# EAGLE library part ADNS3080 (library 3DRobotics_Master_Library)
Agilent ADNS3080 High-pefformance Optical Mouse Sensor The ADNS-3080 is a high performance addition to Agilent?s popular ADNS family of optical mouse sensors. The ADNS-3080 is based on a new, faster architecture with improved navigation. The sensor is capable of sensing high speed mouse motion - up to 40 inches per second and acceleration up to 15g ? for increased user precision and smoothness. The ADNS-3080 along with the ADNS-2120 (or ADNS-2120-001) lens, ADNS-2220 (or ADNS- 2220-001) assembly clip and HLMP-ED80-XX000 form a complete, compact optical mouse tracking system. There are no moving parts, which means high reliability and less maintenance for the end user. In addition, precision optical alignment is not required, facilitating high volume assembly. The sensor is programmed via registers through a four-wire serial port. It is packaged in a 20-pin staggered dual inline package (DIP).
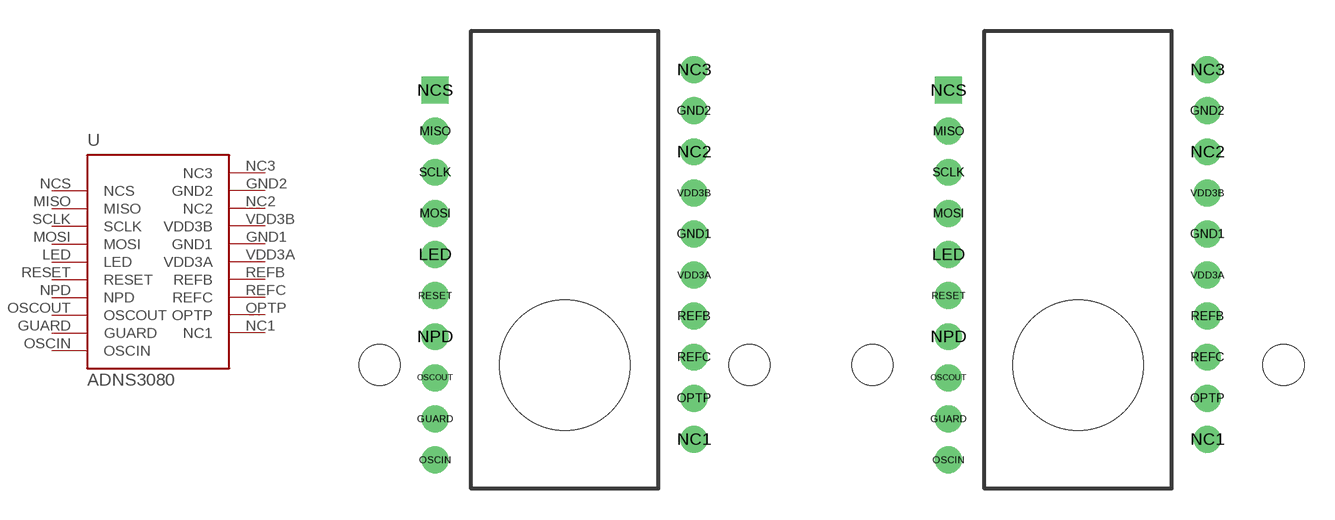
[diagram p21: symbol with the pads of DIL20_18MM; footprints DIL20_18MM, DIL20_20MM]

Designator prefix -

## ADNS308018MM (DATASHEET: http://www.avagotech.com/docs/AV02-0366EN; LINK: http://www.avagotech.com/pages/en/navigation_interface_devices/navigation_sensors/led-based_sensors/adns-3080/; MFGPN: ADNS-3080)  [DIL20_18MM]
GND1  GND1
GND2  GND2
GUARD  GUARD
LED  LED
MISO  MISO
MOSI  MOSI
NC1  NC1
NC2  NC2
NC3  NC3
NCS  NCS
NPD  NPD
OPTP  OPTP
OSCIN  OSCIN
OSCOUT  OSCOUT
REFB  REFB
REFC  REFC
RESET  RESET
SCLK  SCLK
VDD3A  VDD3A  pwr
VDD3B  VDD3B  pwr

## ADNS308020MM (DATASHEET: http://www.avagotech.com/docs/AV02-0366EN; LINK: http://www.avagotech.com/pages/en/navigation_interface_devices/navigation_sensors/led-based_sensors/adns-3080/; MFGPN: ADNS-3080)  [DIL20_20MM]
Pads as for DIL20_18MM

## ADNS308018MM_20MM (DATASHEET: http://www.avagotech.com/docs/AV02-0366EN; LINK: http://www.avagotech.com/pages/en/navigation_interface_devices/navigation_sensors/led-based_sensors/adns-3080/; MFGPN: ADNS-3080)  [DIL20_18MM_20MM]
Pads as for DIL20_18MM

## Footprint DIL20_18MM (pad centres in mm)
drill 0.8 round: GND1 6.3,1.38; GND2 6.3,7.38; GUARD -6.3,-7.62; LED -6.3,0.38; MISO -6.3,6.38; MOSI -6.3,2.38; NC1 6.3,-8.62; NC2 6.3,5.38; NC3 6.3,9.38; NPD -6.3,-3.62; OPTP 6.3,-6.62; OSCIN -6.3,-9.62; OSCOUT -6.3,-5.62; REFB 6.3,-2.62; REFC 6.3,-4.62; RESET -6.3,-1.62; SCLK -6.3,4.38; VDD3A 6.3,-0.62; VDD3B 6.3,3.38
drill 0.8 square: NCS -6.3,8.38
hole 6.35 at 0,-5
hole 2 at -9,-5
hole 2 at 9,-5

## Footprint DIL20_20MM (pad centres in mm)
drill 0.8 round: GND1 6.3,1.38; GND2 6.3,7.38; GUARD -6.3,-7.62; LED -6.3,0.38; MISO -6.3,6.38; MOSI -6.3,2.38; NC1 6.3,-8.62; NC2 6.3,5.38; NC3 6.3,9.38; NPD -6.3,-3.62; OPTP 6.3,-6.62; OSCIN -6.3,-9.62; OSCOUT -6.3,-5.62; REFB 6.3,-2.62; REFC 6.3,-4.62; RESET -6.3,-1.62; SCLK -6.3,4.38; VDD3A 6.3,-0.62; VDD3B 6.3,3.38
drill 0.8 square: NCS -6.3,8.38
hole 6.35 at 0,-5
hole 2 at -10,-5
hole 2 at 10,-5

## Footprint DIL20_18MM_20MM (pad centres in mm)
drill 0.8 round: GND1 6.3,1.38; GND2 6.3,7.38; GUARD -6.3,-7.62; LED -6.3,0.38; MISO -6.3,6.38; MOSI -6.3,2.38; NC1 6.3,-8.62; NC2 6.3,5.38; NC3 6.3,9.38; NPD -6.3,-3.62; OPTP 6.3,-6.62; OSCIN -6.3,-9.62; OSCOUT -6.3,-5.62; REFB 6.3,-2.62; REFC 6.3,-4.62; RESET -6.3,-1.62; SCLK -6.3,4.38; VDD3A 6.3,-0.62; VDD3B 6.3,3.38
drill 0.8 square: NCS -6.3,8.38
hole 6.35 at 0,-5
hole 2 at 9,-5
hole 2 at -9,-5
hole 2 at -9.54,-2
hole 2 at 9.54,-8